# Altium schematic symbol library capacitor_murata_1210$.SchLib: 200 symbols (part 4 of 4)
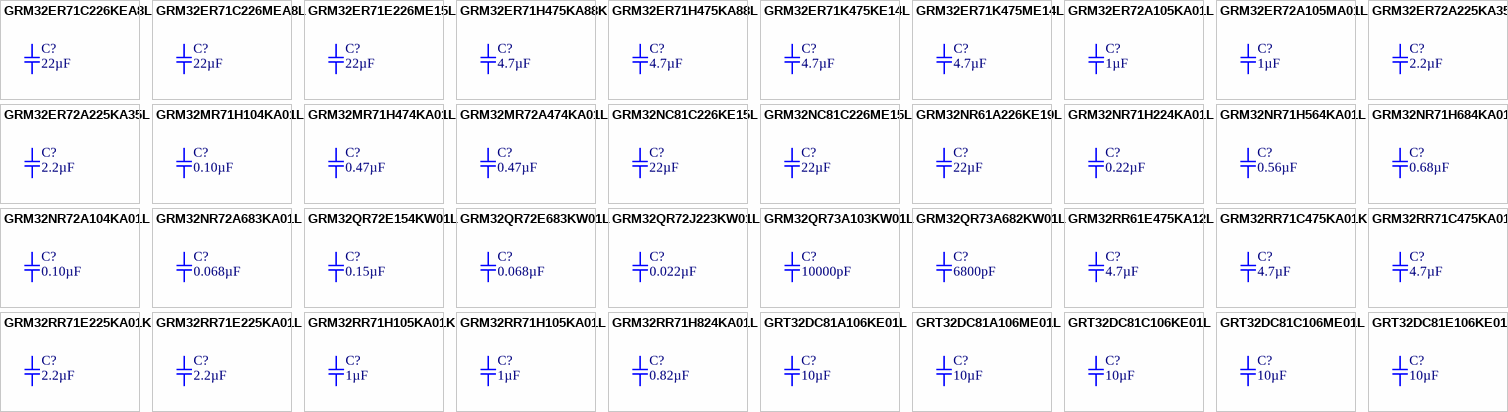
[diagram p7: symbols GRM32ER71C226KEA8L to GRT32DC81E106KE01L]

## GRT32DC81A106KE01L
designator C?, comment 10µF
CAP CER 10UF 10V X6S 1210; Part Number: GRT32DC81A106KE01L; Manufacturer: Murata Electronics North America; Factory Stock: 0; Unit Price (USD): 0.87; Minimum Quantity: 1; Tolerance: ±10%; Datasheets: http://search.murata.co.jp/Ceramy/image/img/A01X/G101/ENG/GRT32DC81A106KE01-01.pdf; Image: //media.digikey.com/Renders/Murata%20Renders/GRT%20Series%201210(3225%20Metric).jpg; Digi-Key Part Number: 490-12463-1-ND; Quantity Available: 1000; @ qty: 0; Packaging: Cut Tape (CT); Series: GRT; Part Status: Active; Value: 10µF; Voltage: 10V; Temperature Coefficient: X6S; Operating Temperature: -55°C ~ 105°C; Features: -; Ratings: AEC-Q200; Applications: Automotive; Failure Rate: Surface Mount, MLCC; Mounting Type: 1210 (3225 Metric); Package / Case: 0.126" L x 0.098" W (3.20mm x 2.50mm); Size / Dimension: -; Height - Seated (Max): 0.087" (2.20mm); Thickness (Max): -; Lead Spacing: -
footprint SMD-1210C
pins: 1, 2

## GRT32DC81A106ME01L
designator C?, comment 10µF
CAP CER 10UF 10V X6S 1210; Part Number: GRT32DC81A106ME01L; Manufacturer: Murata Electronics North America; Factory Stock: 0; Unit Price (USD): 0.87; Minimum Quantity: 1; Tolerance: ±20%; Datasheets: http://search.murata.co.jp/Ceramy/image/img/A01X/G101/ENG/GRT32DC81A106ME01-01.pdf; Image: //media.digikey.com/Renders/Murata%20Renders/GRT%20Series%201210(3225%20Metric).jpg; Digi-Key Part Number: 490-12464-1-ND; Quantity Available: 1000; @ qty: 0; Packaging: Cut Tape (CT); Series: GRT; Part Status: Active; Value: 10µF; Voltage: 10V; Temperature Coefficient: X6S; Operating Temperature: -55°C ~ 105°C; Features: -; Ratings: AEC-Q200; Applications: Automotive; Failure Rate: Surface Mount, MLCC; Mounting Type: 1210 (3225 Metric); Package / Case: 0.126" L x 0.098" W (3.20mm x 2.50mm); Size / Dimension: -; Height - Seated (Max): 0.087" (2.20mm); Thickness (Max): -; Lead Spacing: -
footprint SMD-1210C
pins: 1, 2

## GRT32DC81C106KE01L
designator C?, comment 10µF
CAP CER 10UF 16V X6S 1210; Part Number: GRT32DC81C106KE01L; Manufacturer: Murata Electronics North America; Factory Stock: 0; Unit Price (USD): 0.87; Minimum Quantity: 1; Tolerance: ±10%; Datasheets: http://search.murata.co.jp/Ceramy/image/img/A01X/G101/ENG/GRT32DC81C106KE01-01.pdf; Image: //media.digikey.com/Renders/Murata%20Renders/GRT%20Series%201210(3225%20Metric).jpg; Digi-Key Part Number: 490-12465-1-ND; Quantity Available: 1000; @ qty: 0; Packaging: Cut Tape (CT); Series: GRT; Part Status: Active; Value: 10µF; Voltage: 16V; Temperature Coefficient: X6S; Operating Temperature: -55°C ~ 105°C; Features: -; Ratings: AEC-Q200; Applications: Automotive; Failure Rate: Surface Mount, MLCC; Mounting Type: 1210 (3225 Metric); Package / Case: 0.126" L x 0.098" W (3.20mm x 2.50mm); Size / Dimension: -; Height - Seated (Max): 0.087" (2.20mm); Thickness (Max): -; Lead Spacing: -
footprint SMD-1210C
pins: 1, 2

## GRT32DC81C106ME01L
designator C?, comment 10µF
CAP CER 10UF 16V X6S 1210; Part Number: GRT32DC81C106ME01L; Manufacturer: Murata Electronics North America; Factory Stock: 0; Unit Price (USD): 0.87; Minimum Quantity: 1; Tolerance: ±20%; Datasheets: http://search.murata.co.jp/Ceramy/image/img/A01X/G101/ENG/GRT32DC81C106ME01-01.pdf; Image: //media.digikey.com/Renders/Murata%20Renders/GRT%20Series%201210(3225%20Metric).jpg; Digi-Key Part Number: 490-12466-1-ND; Quantity Available: 1000; @ qty: 0; Packaging: Cut Tape (CT); Series: GRT; Part Status: Active; Value: 10µF; Voltage: 16V; Temperature Coefficient: X6S; Operating Temperature: -55°C ~ 105°C; Features: -; Ratings: AEC-Q200; Applications: Automotive; Failure Rate: Surface Mount, MLCC; Mounting Type: 1210 (3225 Metric); Package / Case: 0.126" L x 0.098" W (3.20mm x 2.50mm); Size / Dimension: -; Height - Seated (Max): 0.087" (2.20mm); Thickness (Max): -; Lead Spacing: -
footprint SMD-1210C
pins: 1, 2

## GRT32DC81E106KE01L
designator C?, comment 10µF
CAP CER 10UF 25V X6S 1210; Part Number: GRT32DC81E106KE01L; Manufacturer: Murata Electronics North America; Factory Stock: 0; Unit Price (USD): 0.91; Minimum Quantity: 1; Tolerance: ±10%; Datasheets: http://search.murata.co.jp/Ceramy/image/img/A01X/G101/ENG/GRT32DC81E106KE01-01.pdf; Image: //media.digikey.com/Renders/Murata%20Renders/GRT%20Series%201210(3225%20Metric).jpg; Digi-Key Part Number: 490-12467-1-ND; Quantity Available: 1000; @ qty: 0; Packaging: Cut Tape (CT); Series: GRT; Part Status: Active; Value: 10µF; Voltage: 25V; Temperature Coefficient: X6S; Operating Temperature: -55°C ~ 105°C; Features: -; Ratings: AEC-Q200; Applications: Automotive; Failure Rate: Surface Mount, MLCC; Mounting Type: 1210 (3225 Metric); Package / Case: 0.126" L x 0.098" W (3.20mm x 2.50mm); Size / Dimension: -; Height - Seated (Max): 0.087" (2.20mm); Thickness (Max): -; Lead Spacing: -
footprint SMD-1210C
pins: 1, 2

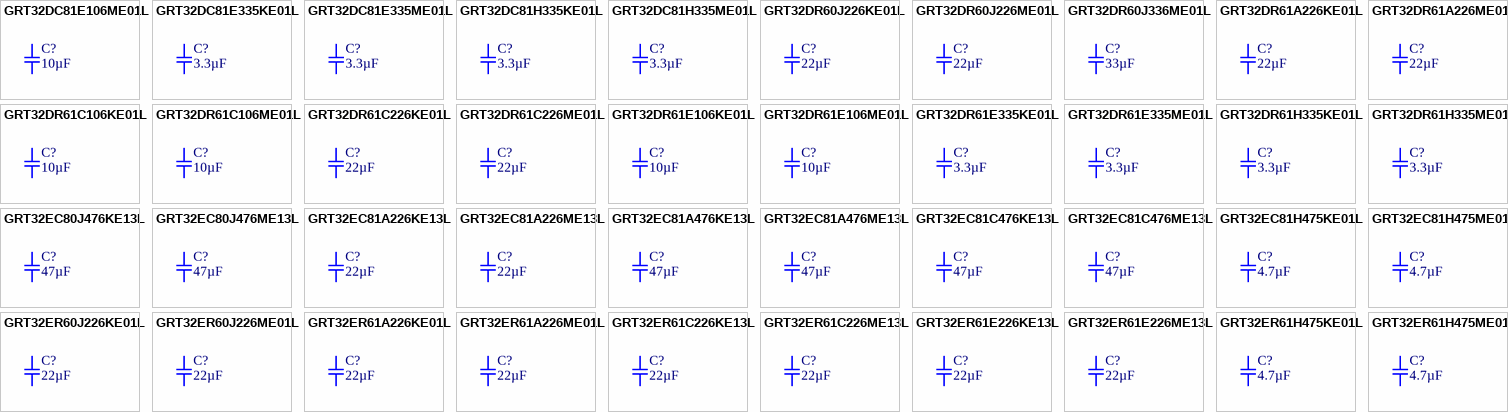
[diagram p4: symbols GRT32DC81E106ME01L to GRT32ER61H475ME01L]

## GRT32DC81E106ME01L
designator C?, comment 10µF
CAP CER 10UF 25V X6S 1210; Part Number: GRT32DC81E106ME01L; Manufacturer: Murata Electronics North America; Factory Stock: 0; Unit Price (USD): 0.91; Minimum Quantity: 1; Tolerance: ±20%; Datasheets: http://search.murata.co.jp/Ceramy/image/img/A01X/G101/ENG/GRT32DC81E106ME01-01.pdf; Image: //media.digikey.com/Renders/Murata%20Renders/GRT%20Series%201210(3225%20Metric).jpg; Digi-Key Part Number: 490-12468-1-ND; Quantity Available: 1000; @ qty: 0; Packaging: Cut Tape (CT); Series: GRT; Part Status: Active; Value: 10µF; Voltage: 25V; Temperature Coefficient: X6S; Operating Temperature: -55°C ~ 105°C; Features: -; Ratings: AEC-Q200; Applications: Automotive; Failure Rate: Surface Mount, MLCC; Mounting Type: 1210 (3225 Metric); Package / Case: 0.126" L x 0.098" W (3.20mm x 2.50mm); Size / Dimension: -; Height - Seated (Max): 0.087" (2.20mm); Thickness (Max): -; Lead Spacing: -
footprint SMD-1210C
pins: 1, 2

## GRT32DC81E335KE01L
designator C?, comment 3.3µF
CAP CER 3.3UF 25V X6S 1210; Part Number: GRT32DC81E335KE01L; Manufacturer: Murata Electronics North America; Factory Stock: 0; Unit Price (USD): 0.66; Minimum Quantity: 1; Tolerance: ±10%; Datasheets: http://search.murata.co.jp/Ceramy/image/img/A01X/G101/ENG/GRT32DC81E335KE01-01.pdf; Image: //media.digikey.com/Renders/Murata%20Renders/GRT%20Series%201210(3225%20Metric).jpg; Digi-Key Part Number: 490-12469-1-ND; Quantity Available: 988; @ qty: 0; Packaging: Cut Tape (CT); Series: GRT; Part Status: Active; Value: 3.3µF; Voltage: 25V; Temperature Coefficient: X6S; Operating Temperature: -55°C ~ 105°C; Features: -; Ratings: AEC-Q200; Applications: Automotive; Failure Rate: Surface Mount, MLCC; Mounting Type: 1210 (3225 Metric); Package / Case: 0.126" L x 0.098" W (3.20mm x 2.50mm); Size / Dimension: -; Height - Seated (Max): 0.087" (2.20mm); Thickness (Max): -; Lead Spacing: -
footprint SMD-1210C
pins: 1, 2

## GRT32DC81E335ME01L
designator C?, comment 3.3µF
CAP CER 3.3UF 25V X6S 1210; Part Number: GRT32DC81E335ME01L; Manufacturer: Murata Electronics North America; Factory Stock: 0; Unit Price (USD): 0.66; Minimum Quantity: 1; Tolerance: ±20%; Datasheets: http://search.murata.co.jp/Ceramy/image/img/A01X/G101/ENG/GRT32DC81E335ME01-01.pdf; Image: //media.digikey.com/Renders/Murata%20Renders/GRT%20Series%201210(3225%20Metric).jpg; Digi-Key Part Number: 490-12470-1-ND; Quantity Available: 1000; @ qty: 0; Packaging: Cut Tape (CT); Series: GRT; Part Status: Active; Value: 3.3µF; Voltage: 25V; Temperature Coefficient: X6S; Operating Temperature: -55°C ~ 105°C; Features: -; Ratings: AEC-Q200; Applications: Automotive; Failure Rate: Surface Mount, MLCC; Mounting Type: 1210 (3225 Metric); Package / Case: 0.126" L x 0.098" W (3.20mm x 2.50mm); Size / Dimension: -; Height - Seated (Max): 0.087" (2.20mm); Thickness (Max): -; Lead Spacing: -
footprint SMD-1210C
pins: 1, 2

## GRT32DC81H335KE01L
designator C?, comment 3.3µF
CAP CER 3.3UF 50V X6S 1210; Part Number: GRT32DC81H335KE01L; Manufacturer: Murata Electronics North America; Factory Stock: 0; Unit Price (USD): 1.05; Minimum Quantity: 1; Tolerance: ±10%; Datasheets: http://search.murata.co.jp/Ceramy/image/img/A01X/G101/ENG/GRT32DC81H335KE01-01.pdf; Image: //media.digikey.com/Renders/Murata%20Renders/GRT%20Series%201210(3225%20Metric).jpg; Digi-Key Part Number: 490-12471-1-ND; Quantity Available: 1000; @ qty: 0; Packaging: Cut Tape (CT); Series: GRT; Part Status: Active; Value: 3.3µF; Voltage: 50V; Temperature Coefficient: X6S; Operating Temperature: -55°C ~ 105°C; Features: -; Ratings: AEC-Q200; Applications: Automotive; Failure Rate: Surface Mount, MLCC; Mounting Type: 1210 (3225 Metric); Package / Case: 0.126" L x 0.098" W (3.20mm x 2.50mm); Size / Dimension: -; Height - Seated (Max): 0.087" (2.20mm); Thickness (Max): -; Lead Spacing: -
footprint SMD-1210C
pins: 1, 2

## GRT32DC81H335ME01L
designator C?, comment 3.3µF
CAP CER 3.3UF 50V X6S 1210; Part Number: GRT32DC81H335ME01L; Manufacturer: Murata Electronics North America; Factory Stock: 0; Unit Price (USD): 1.05; Minimum Quantity: 1; Tolerance: ±20%; Datasheets: http://search.murata.co.jp/Ceramy/image/img/A01X/G101/ENG/GRT32DC81H335ME01-01.pdf; Image: //media.digikey.com/Renders/Murata%20Renders/GRT%20Series%201210(3225%20Metric).jpg; Digi-Key Part Number: 490-12472-1-ND; Quantity Available: 1000; @ qty: 0; Packaging: Cut Tape (CT); Series: GRT; Part Status: Active; Value: 3.3µF; Voltage: 50V; Temperature Coefficient: X6S; Operating Temperature: -55°C ~ 105°C; Features: -; Ratings: AEC-Q200; Applications: Automotive; Failure Rate: Surface Mount, MLCC; Mounting Type: 1210 (3225 Metric); Package / Case: 0.126" L x 0.098" W (3.20mm x 2.50mm); Size / Dimension: -; Height - Seated (Max): 0.087" (2.20mm); Thickness (Max): -; Lead Spacing: -
footprint SMD-1210C
pins: 1, 2

## GRT32DR60J226KE01L
designator C?, comment 22µF
CAP CER 22UF 6.3V X5R 1210; Part Number: GRT32DR60J226KE01L; Manufacturer: Murata Electronics North America; Factory Stock: 0; Unit Price (USD): 1.03; Minimum Quantity: 1; Tolerance: ±10%; Datasheets: http://search.murata.co.jp/Ceramy/image/img/A01X/G101/ENG/GRT32DR60J226KE01-01.pdf; Image: //media.digikey.com/Renders/Murata%20Renders/GRT%20Series%201210(3225%20Metric).jpg; Digi-Key Part Number: 490-12473-1-ND; Quantity Available: 1000; @ qty: 0; Packaging: Cut Tape (CT); Series: GRT; Part Status: Active; Value: 22µF; Voltage: 6.3V; Temperature Coefficient: X5R; Operating Temperature: -55°C ~ 85°C; Features: -; Ratings: AEC-Q200; Applications: Automotive; Failure Rate: Surface Mount, MLCC; Mounting Type: 1210 (3225 Metric); Package / Case: 0.126" L x 0.098" W (3.20mm x 2.50mm); Size / Dimension: -; Height - Seated (Max): 0.087" (2.20mm); Thickness (Max): -; Lead Spacing: -
footprint SMD-1210C
pins: 1, 2

## GRT32DR60J226ME01L
designator C?, comment 22µF
CAP CER 22UF 6.3V X5R 1210; Part Number: GRT32DR60J226ME01L; Manufacturer: Murata Electronics North America; Factory Stock: 0; Unit Price (USD): 1.03; Minimum Quantity: 1; Tolerance: ±20%; Datasheets: http://search.murata.co.jp/Ceramy/image/img/A01X/G101/ENG/GRT32DR60J226ME01-01.pdf; Image: //media.digikey.com/Renders/Murata%20Renders/GRT%20Series%201210(3225%20Metric).jpg; Digi-Key Part Number: 490-12474-1-ND; Quantity Available: 1000; @ qty: 0; Packaging: Cut Tape (CT); Series: GRT; Part Status: Active; Value: 22µF; Voltage: 6.3V; Temperature Coefficient: X5R; Operating Temperature: -55°C ~ 85°C; Features: -; Ratings: AEC-Q200; Applications: Automotive; Failure Rate: Surface Mount, MLCC; Mounting Type: 1210 (3225 Metric); Package / Case: 0.126" L x 0.098" W (3.20mm x 2.50mm); Size / Dimension: -; Height - Seated (Max): 0.087" (2.20mm); Thickness (Max): -; Lead Spacing: -
footprint SMD-1210C
pins: 1, 2

## GRT32DR60J336ME01L
designator C?, comment 33µF
CAP CER 33UF 6.3V X5R 1210; Part Number: GRT32DR60J336ME01L; Manufacturer: Murata Electronics North America; Factory Stock: 0; Unit Price (USD): 1.52; Minimum Quantity: 1; Tolerance: ±20%; Datasheets: http://search.murata.co.jp/Ceramy/image/img/A01X/G101/ENG/GRT32DR60J336ME01-01.pdf; Image: //media.digikey.com/Renders/Murata%20Renders/GRT%20Series%201210(3225%20Metric).jpg; Digi-Key Part Number: 490-12475-1-ND; Quantity Available: 955; @ qty: 0; Packaging: Cut Tape (CT); Series: GRT; Part Status: Active; Value: 33µF; Voltage: 6.3V; Temperature Coefficient: X5R; Operating Temperature: -55°C ~ 85°C; Features: -; Ratings: AEC-Q200; Applications: Automotive; Failure Rate: Surface Mount, MLCC; Mounting Type: 1210 (3225 Metric); Package / Case: 0.126" L x 0.098" W (3.20mm x 2.50mm); Size / Dimension: -; Height - Seated (Max): 0.087" (2.20mm); Thickness (Max): -; Lead Spacing: -
footprint SMD-1210C
pins: 1, 2

## GRT32DR61A226KE01L
designator C?, comment 22µF
CAP CER 22UF 10V X5R 1210; Part Number: GRT32DR61A226KE01L; Manufacturer: Murata Electronics North America; Factory Stock: 0; Unit Price (USD): 1.15; Minimum Quantity: 1; Tolerance: ±10%; Datasheets: http://search.murata.co.jp/Ceramy/image/img/A01X/G101/ENG/GRT32DR61A226KE01-01.pdf; Image: //media.digikey.com/Renders/Murata%20Renders/GRT%20Series%201210(3225%20Metric).jpg; Digi-Key Part Number: 490-12476-1-ND; Quantity Available: 500; @ qty: 0; Packaging: Cut Tape (CT); Series: GRT; Part Status: Active; Value: 22µF; Voltage: 10V; Temperature Coefficient: X5R; Operating Temperature: -55°C ~ 85°C; Features: -; Ratings: AEC-Q200; Applications: Automotive; Failure Rate: Surface Mount, MLCC; Mounting Type: 1210 (3225 Metric); Package / Case: 0.126" L x 0.098" W (3.20mm x 2.50mm); Size / Dimension: -; Height - Seated (Max): 0.087" (2.20mm); Thickness (Max): -; Lead Spacing: -
footprint SMD-1210C
pins: 1, 2

## GRT32DR61A226ME01L
designator C?, comment 22µF
CAP CER 22UF 10V X5R 1210; Part Number: GRT32DR61A226ME01L; Manufacturer: Murata Electronics North America; Factory Stock: 0; Unit Price (USD): 1.15; Minimum Quantity: 1; Tolerance: ±20%; Datasheets: http://search.murata.co.jp/Ceramy/image/img/A01X/G101/ENG/GRT32DR61A226ME01-01.pdf; Image: //media.digikey.com/Renders/Murata%20Renders/GRT%20Series%201210(3225%20Metric).jpg; Digi-Key Part Number: 490-12477-1-ND; Quantity Available: 1000; @ qty: 0; Packaging: Cut Tape (CT); Series: GRT; Part Status: Active; Value: 22µF; Voltage: 10V; Temperature Coefficient: X5R; Operating Temperature: -55°C ~ 85°C; Features: -; Ratings: AEC-Q200; Applications: Automotive; Failure Rate: Surface Mount, MLCC; Mounting Type: 1210 (3225 Metric); Package / Case: 0.126" L x 0.098" W (3.20mm x 2.50mm); Size / Dimension: -; Height - Seated (Max): 0.087" (2.20mm); Thickness (Max): -; Lead Spacing: -
footprint SMD-1210C
pins: 1, 2

## GRT32DR61C106KE01L
designator C?, comment 10µF
CAP CER 10UF 16V X5R 1210; Part Number: GRT32DR61C106KE01L; Manufacturer: Murata Electronics North America; Factory Stock: 0; Unit Price (USD): 1.09; Minimum Quantity: 1; Tolerance: ±10%; Datasheets: http://search.murata.co.jp/Ceramy/image/img/A01X/G101/ENG/GRT32DR61C106KE01-01.pdf; Image: //media.digikey.com/Renders/Murata%20Renders/GRT%20Series%201210(3225%20Metric).jpg; Digi-Key Part Number: 490-12478-1-ND; Quantity Available: 1000; @ qty: 0; Packaging: Cut Tape (CT); Series: GRT; Part Status: Active; Value: 10µF; Voltage: 16V; Temperature Coefficient: X5R; Operating Temperature: -55°C ~ 85°C; Features: -; Ratings: AEC-Q200; Applications: Automotive; Failure Rate: Surface Mount, MLCC; Mounting Type: 1210 (3225 Metric); Package / Case: 0.126" L x 0.098" W (3.20mm x 2.50mm); Size / Dimension: -; Height - Seated (Max): 0.087" (2.20mm); Thickness (Max): -; Lead Spacing: -
footprint SMD-1210C
pins: 1, 2

## GRT32DR61C106ME01L
designator C?, comment 10µF
CAP CER 10UF 16V X5R 1210; Part Number: GRT32DR61C106ME01L; Manufacturer: Murata Electronics North America; Factory Stock: 0; Unit Price (USD): 0.84; Minimum Quantity: 1; Tolerance: ±20%; Datasheets: http://search.murata.co.jp/Ceramy/image/img/A01X/G101/ENG/GRT32DR61C106ME01-01.pdf; Image: //media.digikey.com/Renders/Murata%20Renders/GRT%20Series%201210(3225%20Metric).jpg; Digi-Key Part Number: 490-12479-1-ND; Quantity Available: 1000; @ qty: 0; Packaging: Cut Tape (CT); Series: GRT; Part Status: Active; Value: 10µF; Voltage: 16V; Temperature Coefficient: X5R; Operating Temperature: -55°C ~ 85°C; Features: -; Ratings: AEC-Q200; Applications: Automotive; Failure Rate: Surface Mount, MLCC; Mounting Type: 1210 (3225 Metric); Package / Case: 0.126" L x 0.098" W (3.20mm x 2.50mm); Size / Dimension: -; Height - Seated (Max): 0.087" (2.20mm); Thickness (Max): -; Lead Spacing: -
footprint SMD-1210C
pins: 1, 2

## GRT32DR61C226KE01L
designator C?, comment 22µF
CAP CER 22UF 16V X5R 1210; Part Number: GRT32DR61C226KE01L; Manufacturer: Murata Electronics North America; Factory Stock: 0; Unit Price (USD): 1.15; Minimum Quantity: 1; Tolerance: ±10%; Datasheets: http://search.murata.co.jp/Ceramy/image/img/A01X/G101/ENG/GRT32DR61C226KE01-01.pdf; Image: //media.digikey.com/Renders/Murata%20Renders/GRT%20Series%201210(3225%20Metric).jpg; Digi-Key Part Number: 490-12480-1-ND; Quantity Available: 1000; @ qty: 0; Packaging: Cut Tape (CT); Series: GRT; Part Status: Active; Value: 22µF; Voltage: 16V; Temperature Coefficient: X5R; Operating Temperature: -55°C ~ 85°C; Features: -; Ratings: AEC-Q200; Applications: Automotive; Failure Rate: Surface Mount, MLCC; Mounting Type: 1210 (3225 Metric); Package / Case: 0.126" L x 0.098" W (3.20mm x 2.50mm); Size / Dimension: -; Height - Seated (Max): 0.087" (2.20mm); Thickness (Max): -; Lead Spacing: -
footprint SMD-1210C
pins: 1, 2

## GRT32DR61C226ME01L
designator C?, comment 22µF
CAP CER 22UF 16V X5R 1210; Part Number: GRT32DR61C226ME01L; Manufacturer: Murata Electronics North America; Factory Stock: 0; Unit Price (USD): 1.15; Minimum Quantity: 1; Tolerance: ±20%; Datasheets: http://search.murata.co.jp/Ceramy/image/img/A01X/G101/ENG/GRT32DR61C226ME01-01.pdf; Image: //media.digikey.com/Renders/Murata%20Renders/GRT%20Series%201210(3225%20Metric).jpg; Digi-Key Part Number: 490-12481-1-ND; Quantity Available: 1000; @ qty: 0; Packaging: Cut Tape (CT); Series: GRT; Part Status: Active; Value: 22µF; Voltage: 16V; Temperature Coefficient: X5R; Operating Temperature: -55°C ~ 85°C; Features: -; Ratings: AEC-Q200; Applications: Automotive; Failure Rate: Surface Mount, MLCC; Mounting Type: 1210 (3225 Metric); Package / Case: 0.126" L x 0.098" W (3.20mm x 2.50mm); Size / Dimension: -; Height - Seated (Max): 0.087" (2.20mm); Thickness (Max): -; Lead Spacing: -
footprint SMD-1210C
pins: 1, 2

## GRT32DR61E106KE01L
designator C?, comment 10µF
CAP CER 10UF 25V X5R 1210; Part Number: GRT32DR61E106KE01L; Manufacturer: Murata Electronics North America; Factory Stock: 0; Unit Price (USD): 0.91; Minimum Quantity: 1; Tolerance: ±10%; Datasheets: http://search.murata.co.jp/Ceramy/image/img/A01X/G101/ENG/GRT32DR61E106KE01-01.pdf; Image: //media.digikey.com/Renders/Murata%20Renders/GRT%20Series%201210(3225%20Metric).jpg; Digi-Key Part Number: 490-12482-1-ND; Quantity Available: 1000; @ qty: 0; Packaging: Cut Tape (CT); Series: GRT; Part Status: Active; Value: 10µF; Voltage: 25V; Temperature Coefficient: X5R; Operating Temperature: -55°C ~ 85°C; Features: -; Ratings: AEC-Q200; Applications: Automotive; Failure Rate: Surface Mount, MLCC; Mounting Type: 1210 (3225 Metric); Package / Case: 0.126" L x 0.098" W (3.20mm x 2.50mm); Size / Dimension: -; Height - Seated (Max): 0.087" (2.20mm); Thickness (Max): -; Lead Spacing: -
footprint SMD-1210C
pins: 1, 2

## GRT32DR61E106ME01L
designator C?, comment 10µF
CAP CER 10UF 25V X5R 1210; Part Number: GRT32DR61E106ME01L; Manufacturer: Murata Electronics North America; Factory Stock: 0; Unit Price (USD): 0.91; Minimum Quantity: 1; Tolerance: ±20%; Datasheets: http://search.murata.co.jp/Ceramy/image/img/A01X/G101/ENG/GRT32DR61E106ME01-01.pdf; Image: //media.digikey.com/Renders/Murata%20Renders/GRT%20Series%201210(3225%20Metric).jpg; Digi-Key Part Number: 490-12483-1-ND; Quantity Available: 950; @ qty: 0; Packaging: Cut Tape (CT); Series: GRT; Part Status: Active; Value: 10µF; Voltage: 25V; Temperature Coefficient: X5R; Operating Temperature: -55°C ~ 85°C; Features: -; Ratings: AEC-Q200; Applications: Automotive; Failure Rate: Surface Mount, MLCC; Mounting Type: 1210 (3225 Metric); Package / Case: 0.126" L x 0.098" W (3.20mm x 2.50mm); Size / Dimension: -; Height - Seated (Max): 0.087" (2.20mm); Thickness (Max): -; Lead Spacing: -
footprint SMD-1210C
pins: 1, 2

## GRT32DR61E335KE01L
designator C?, comment 3.3µF
CAP CER 3.3UF 25V X5R 1210; Part Number: GRT32DR61E335KE01L; Manufacturer: Murata Electronics North America; Factory Stock: 0; Unit Price (USD): 0.66; Minimum Quantity: 1; Tolerance: ±10%; Datasheets: http://search.murata.co.jp/Ceramy/image/img/A01X/G101/ENG/GRT32DR61E335KE01-01.pdf; Image: //media.digikey.com/Renders/Murata%20Renders/GRT%20Series%201210(3225%20Metric).jpg; Digi-Key Part Number: 490-12484-1-ND; Quantity Available: 1000; @ qty: 0; Packaging: Cut Tape (CT); Series: GRT; Part Status: Active; Value: 3.3µF; Voltage: 25V; Temperature Coefficient: X5R; Operating Temperature: -55°C ~ 85°C; Features: -; Ratings: AEC-Q200; Applications: Automotive; Failure Rate: Surface Mount, MLCC; Mounting Type: 1210 (3225 Metric); Package / Case: 0.126" L x 0.098" W (3.20mm x 2.50mm); Size / Dimension: -; Height - Seated (Max): 0.087" (2.20mm); Thickness (Max): -; Lead Spacing: -
footprint SMD-1210C
pins: 1, 2

## GRT32DR61E335ME01L
designator C?, comment 3.3µF
CAP CER 3.3UF 25V X5R 1210; Part Number: GRT32DR61E335ME01L; Manufacturer: Murata Electronics North America; Factory Stock: 0; Unit Price (USD): 0.66; Minimum Quantity: 1; Tolerance: ±20%; Datasheets: http://search.murata.co.jp/Ceramy/image/img/A01X/G101/ENG/GRT32DR61E335ME01-01.pdf; Image: //media.digikey.com/Renders/Murata%20Renders/GRT%20Series%201210(3225%20Metric).jpg; Digi-Key Part Number: 490-12485-1-ND; Quantity Available: 1000; @ qty: 0; Packaging: Cut Tape (CT); Series: GRT; Part Status: Active; Value: 3.3µF; Voltage: 25V; Temperature Coefficient: X5R; Operating Temperature: -55°C ~ 85°C; Features: -; Ratings: AEC-Q200; Applications: Automotive; Failure Rate: Surface Mount, MLCC; Mounting Type: 1210 (3225 Metric); Package / Case: 0.126" L x 0.098" W (3.20mm x 2.50mm); Size / Dimension: -; Height - Seated (Max): 0.087" (2.20mm); Thickness (Max): -; Lead Spacing: -
footprint SMD-1210C
pins: 1, 2

## GRT32DR61H335KE01L
designator C?, comment 3.3µF
CAP CER 3.3UF 50V X5R 1210; Part Number: GRT32DR61H335KE01L; Manufacturer: Murata Electronics North America; Factory Stock: 0; Unit Price (USD): 1.01; Minimum Quantity: 1; Tolerance: ±10%; Datasheets: http://search.murata.co.jp/Ceramy/image/img/A01X/G101/ENG/GRT32DR61H335KE01-01.pdf; Image: //media.digikey.com/Renders/Murata%20Renders/GRT%20Series%201210(3225%20Metric).jpg; Digi-Key Part Number: 490-12486-1-ND; Quantity Available: 1000; @ qty: 0; Packaging: Cut Tape (CT); Series: GRT; Part Status: Active; Value: 3.3µF; Voltage: 50V; Temperature Coefficient: X5R; Operating Temperature: -55°C ~ 85°C; Features: -; Ratings: AEC-Q200; Applications: Automotive; Failure Rate: Surface Mount, MLCC; Mounting Type: 1210 (3225 Metric); Package / Case: 0.126" L x 0.098" W (3.20mm x 2.50mm); Size / Dimension: -; Height - Seated (Max): 0.087" (2.20mm); Thickness (Max): -; Lead Spacing: -
footprint SMD-1210C
pins: 1, 2

## GRT32DR61H335ME01L
designator C?, comment 3.3µF
CAP CER 3.3UF 50V X5R 1210; Part Number: GRT32DR61H335ME01L; Manufacturer: Murata Electronics North America; Factory Stock: 0; Unit Price (USD): 1.01; Minimum Quantity: 1; Tolerance: ±20%; Datasheets: http://search.murata.co.jp/Ceramy/image/img/A01X/G101/ENG/GRT32DR61H335ME01-01.pdf; Image: //media.digikey.com/Renders/Murata%20Renders/GRT%20Series%201210(3225%20Metric).jpg; Digi-Key Part Number: 490-12487-1-ND; Quantity Available: 1000; @ qty: 0; Packaging: Cut Tape (CT); Series: GRT; Part Status: Active; Value: 3.3µF; Voltage: 50V; Temperature Coefficient: X5R; Operating Temperature: -55°C ~ 85°C; Features: -; Ratings: AEC-Q200; Applications: Automotive; Failure Rate: Surface Mount, MLCC; Mounting Type: 1210 (3225 Metric); Package / Case: 0.126" L x 0.098" W (3.20mm x 2.50mm); Size / Dimension: -; Height - Seated (Max): 0.087" (2.20mm); Thickness (Max): -; Lead Spacing: -
footprint SMD-1210C
pins: 1, 2

## GRT32EC80J476KE13L
designator C?, comment 47µF
CAP CER 47UF 6.3V X6S 1210; Part Number: GRT32EC80J476KE13L; Manufacturer: Murata Electronics North America; Factory Stock: 0; Unit Price (USD): 1.42; Minimum Quantity: 1; Tolerance: ±10%; Datasheets: http://search.murata.co.jp/Ceramy/image/img/A01X/G101/ENG/GRT32EC80J476KE13-01.pdf; Image: //media.digikey.com/Renders/Murata%20Renders/GRT%20Series%201210(3225%20Metric).jpg; Digi-Key Part Number: 490-12488-1-ND; Quantity Available: 975; @ qty: 0; Packaging: Cut Tape (CT); Series: GRT; Part Status: Active; Value: 47µF; Voltage: 6.3V; Temperature Coefficient: X6S; Operating Temperature: -55°C ~ 105°C; Features: -; Ratings: AEC-Q200; Applications: Automotive; Failure Rate: Surface Mount, MLCC; Mounting Type: 1210 (3225 Metric); Package / Case: 0.126" L x 0.098" W (3.20mm x 2.50mm); Size / Dimension: -; Height - Seated (Max): 0.106" (2.70mm); Thickness (Max): -; Lead Spacing: -
footprint SMD-1210C
pins: 1, 2

## GRT32EC80J476ME13L
designator C?, comment 47µF
CAP CER 47UF 6.3V X6S 1210; Part Number: GRT32EC80J476ME13L; Manufacturer: Murata Electronics North America; Factory Stock: 0; Unit Price (USD): 1.42; Minimum Quantity: 1; Tolerance: ±20%; Datasheets: http://search.murata.co.jp/Ceramy/image/img/A01X/G101/ENG/GRT32EC80J476ME13-01.pdf; Image: //media.digikey.com/Renders/Murata%20Renders/GRT%20Series%201210(3225%20Metric).jpg; Digi-Key Part Number: 490-12489-1-ND; Quantity Available: 948; @ qty: 0; Packaging: Cut Tape (CT); Series: GRT; Part Status: Active; Value: 47µF; Voltage: 6.3V; Temperature Coefficient: X6S; Operating Temperature: -55°C ~ 105°C; Features: -; Ratings: AEC-Q200; Applications: Automotive; Failure Rate: Surface Mount, MLCC; Mounting Type: 1210 (3225 Metric); Package / Case: 0.126" L x 0.098" W (3.20mm x 2.50mm); Size / Dimension: -; Height - Seated (Max): 0.106" (2.70mm); Thickness (Max): -; Lead Spacing: -
footprint SMD-1210C
pins: 1, 2

## GRT32EC81A226KE13L
designator C?, comment 22µF
CAP CER 22UF 10V X6S 1210; Part Number: GRT32EC81A226KE13L; Manufacturer: Murata Electronics North America; Factory Stock: 0; Unit Price (USD): 1.29; Minimum Quantity: 1; Tolerance: ±10%; Datasheets: http://search.murata.co.jp/Ceramy/image/img/A01X/G101/ENG/GRT32EC81A226KE13-01.pdf; Image: //media.digikey.com/Renders/Murata%20Renders/GRT%20Series%201210(3225%20Metric).jpg; Digi-Key Part Number: 490-12490-1-ND; Quantity Available: 1000; @ qty: 0; Packaging: Cut Tape (CT); Series: GRT; Part Status: Active; Value: 22µF; Voltage: 10V; Temperature Coefficient: X6S; Operating Temperature: -55°C ~ 105°C; Features: -; Ratings: AEC-Q200; Applications: Automotive; Failure Rate: Surface Mount, MLCC; Mounting Type: 1210 (3225 Metric); Package / Case: 0.126" L x 0.098" W (3.20mm x 2.50mm); Size / Dimension: -; Height - Seated (Max): 0.106" (2.70mm); Thickness (Max): -; Lead Spacing: -
footprint SMD-1210C
pins: 1, 2

## GRT32EC81A226ME13L
designator C?, comment 22µF
CAP CER 22UF 10V X6S 1210; Part Number: GRT32EC81A226ME13L; Manufacturer: Murata Electronics North America; Factory Stock: 0; Unit Price (USD): 1.29; Minimum Quantity: 1; Tolerance: ±20%; Datasheets: http://search.murata.co.jp/Ceramy/image/img/A01X/G101/ENG/GRT32EC81A226ME13-01.pdf; Image: //media.digikey.com/Renders/Murata%20Renders/GRT%20Series%201210(3225%20Metric).jpg; Digi-Key Part Number: 490-12491-1-ND; Quantity Available: 990; @ qty: 0; Packaging: Cut Tape (CT); Series: GRT; Part Status: Active; Value: 22µF; Voltage: 10V; Temperature Coefficient: X6S; Operating Temperature: -55°C ~ 105°C; Features: -; Ratings: AEC-Q200; Applications: Automotive; Failure Rate: Surface Mount, MLCC; Mounting Type: 1210 (3225 Metric); Package / Case: 0.126" L x 0.098" W (3.20mm x 2.50mm); Size / Dimension: -; Height - Seated (Max): 0.106" (2.70mm); Thickness (Max): -; Lead Spacing: -
footprint SMD-1210C
pins: 1, 2

## GRT32EC81A476KE13L
designator C?, comment 47µF
CAP CER 47UF 10V X6S 1210; Part Number: GRT32EC81A476KE13L; Manufacturer: Murata Electronics North America; Factory Stock: 0; Unit Price (USD): 1.82; Minimum Quantity: 1; Tolerance: ±10%; Datasheets: http://search.murata.co.jp/Ceramy/image/img/A01X/G101/ENG/GRT32EC81A476KE13-01.pdf; Image: //media.digikey.com/Renders/Murata%20Renders/GRT%20Series%201210(3225%20Metric).jpg; Digi-Key Part Number: 490-12492-1-ND; Quantity Available: 776; @ qty: 0; Packaging: Cut Tape (CT); Series: GRT; Part Status: Active; Value: 47µF; Voltage: 10V; Temperature Coefficient: X6S; Operating Temperature: -55°C ~ 105°C; Features: -; Ratings: AEC-Q200; Applications: Automotive; Failure Rate: Surface Mount, MLCC; Mounting Type: 1210 (3225 Metric); Package / Case: 0.126" L x 0.098" W (3.20mm x 2.50mm); Size / Dimension: -; Height - Seated (Max): 0.106" (2.70mm); Thickness (Max): -; Lead Spacing: -
footprint SMD-1210C
pins: 1, 2

## GRT32EC81A476ME13L
designator C?, comment 47µF
CAP CER 47UF 10V X6S 1210; Part Number: GRT32EC81A476ME13L; Manufacturer: Murata Electronics North America; Factory Stock: 0; Unit Price (USD): 1.82; Minimum Quantity: 1; Tolerance: ±20%; Datasheets: http://search.murata.co.jp/Ceramy/image/img/A01X/G101/ENG/GRT32EC81A476ME13-01.pdf; Image: //media.digikey.com/Renders/Murata%20Renders/GRT%20Series%201210(3225%20Metric).jpg; Digi-Key Part Number: 490-12493-1-ND; Quantity Available: 710; @ qty: 0; Packaging: Cut Tape (CT); Series: GRT; Part Status: Active; Value: 47µF; Voltage: 10V; Temperature Coefficient: X6S; Operating Temperature: -55°C ~ 105°C; Features: -; Ratings: AEC-Q200; Applications: Automotive; Failure Rate: Surface Mount, MLCC; Mounting Type: 1210 (3225 Metric); Package / Case: 0.126" L x 0.098" W (3.20mm x 2.50mm); Size / Dimension: -; Height - Seated (Max): 0.106" (2.70mm); Thickness (Max): -; Lead Spacing: -
footprint SMD-1210C
pins: 1, 2

## GRT32EC81C476KE13L
designator C?, comment 47µF
CAP CER 47UF 16V X6S 1210; Part Number: GRT32EC81C476KE13L; Manufacturer: Murata Electronics North America; Factory Stock: 0; Unit Price (USD): 0.88; Minimum Quantity: 1; Tolerance: ±10%; Datasheets: http://search.murata.co.jp/Ceramy/image/img/A01X/G101/ENG/GRT32EC81C476KE13-01.pdf; Image: //media.digikey.com/Renders/Murata%20Renders/GRT%20Series%201210(3225%20Metric).jpg; Digi-Key Part Number: 490-12494-1-ND; Quantity Available: 5205; @ qty: 0; Packaging: Cut Tape (CT); Series: GRT; Part Status: Active; Value: 47µF; Voltage: 16V; Temperature Coefficient: X6S; Operating Temperature: -55°C ~ 105°C; Features: Derating Recommended; Ratings: AEC-Q200; Applications: Automotive; Failure Rate: Surface Mount, MLCC; Mounting Type: 1210 (3225 Metric); Package / Case: 0.126" L x 0.098" W (3.20mm x 2.50mm); Size / Dimension: -; Height - Seated (Max): 0.106" (2.70mm); Thickness (Max): -; Lead Spacing: -
footprint SMD-1210C
pins: 1, 2

## GRT32EC81C476ME13L
designator C?, comment 47µF
CAP CER 47UF 16V X6S 1210; Part Number: GRT32EC81C476ME13L; Manufacturer: Murata Electronics North America; Factory Stock: 0; Unit Price (USD): 0.83; Minimum Quantity: 1; Tolerance: ±20%; Datasheets: http://search.murata.co.jp/Ceramy/image/img/A01X/G101/ENG/GRT32EC81C476ME13-01.pdf; Image: //media.digikey.com/Renders/Murata%20Renders/GRT%20Series%201210(3225%20Metric).jpg; Digi-Key Part Number: 490-12495-1-ND; Quantity Available: 5235; @ qty: 0; Packaging: Cut Tape (CT); Series: GRT; Part Status: Active; Value: 47µF; Voltage: 16V; Temperature Coefficient: X6S; Operating Temperature: -55°C ~ 105°C; Features: Derating Recommended; Ratings: AEC-Q200; Applications: Automotive; Failure Rate: Surface Mount, MLCC; Mounting Type: 1210 (3225 Metric); Package / Case: 0.126" L x 0.098" W (3.20mm x 2.50mm); Size / Dimension: -; Height - Seated (Max): 0.106" (2.70mm); Thickness (Max): -; Lead Spacing: -
footprint SMD-1210C
pins: 1, 2

## GRT32EC81H475KE01L
designator C?, comment 4.7µF
CAP CER 4.7UF 50V X6S 1210; Part Number: GRT32EC81H475KE01L; Manufacturer: Murata Electronics North America; Factory Stock: 0; Unit Price (USD): 1.25; Minimum Quantity: 1; Tolerance: ±10%; Datasheets: http://search.murata.co.jp/Ceramy/image/img/A01X/G101/ENG/GRT32EC81H475KE01-01.pdf; Image: //media.digikey.com/Renders/Murata%20Renders/GRT%20Series%201210(3225%20Metric).jpg; Digi-Key Part Number: 490-12496-1-ND; Quantity Available: 1000; @ qty: 0; Packaging: Cut Tape (CT); Series: GRT; Part Status: Active; Value: 4.7µF; Voltage: 50V; Temperature Coefficient: X6S; Operating Temperature: -55°C ~ 105°C; Features: -; Ratings: AEC-Q200; Applications: Automotive; Failure Rate: Surface Mount, MLCC; Mounting Type: 1210 (3225 Metric); Package / Case: 0.126" L x 0.098" W (3.20mm x 2.50mm); Size / Dimension: -; Height - Seated (Max): 0.106" (2.70mm); Thickness (Max): -; Lead Spacing: -
footprint SMD-1210C
pins: 1, 2

## GRT32EC81H475ME01L
designator C?, comment 4.7µF
CAP CER 4.7UF 50V X6S 1210; Part Number: GRT32EC81H475ME01L; Manufacturer: Murata Electronics North America; Factory Stock: 0; Unit Price (USD): 1.25; Minimum Quantity: 1; Tolerance: ±20%; Datasheets: http://search.murata.co.jp/Ceramy/image/img/A01X/G101/ENG/GRT32EC81H475ME01-01.pdf; Image: //media.digikey.com/Renders/Murata%20Renders/GRT%20Series%201210(3225%20Metric).jpg; Digi-Key Part Number: 490-12497-1-ND; Quantity Available: 1000; @ qty: 0; Packaging: Cut Tape (CT); Series: GRT; Part Status: Active; Value: 4.7µF; Voltage: 50V; Temperature Coefficient: X6S; Operating Temperature: -55°C ~ 105°C; Features: -; Ratings: AEC-Q200; Applications: Automotive; Failure Rate: Surface Mount, MLCC; Mounting Type: 1210 (3225 Metric); Package / Case: 0.126" L x 0.098" W (3.20mm x 2.50mm); Size / Dimension: -; Height - Seated (Max): 0.106" (2.70mm); Thickness (Max): -; Lead Spacing: -
footprint SMD-1210C
pins: 1, 2

## GRT32ER60J226KE01L
designator C?, comment 22µF
CAP CER 22UF 6.3V X5R 1210; Part Number: GRT32ER60J226KE01L; Manufacturer: Murata Electronics North America; Factory Stock: 0; Unit Price (USD): 0.95; Minimum Quantity: 1; Tolerance: ±10%; Datasheets: http://search.murata.co.jp/Ceramy/image/img/A01X/G101/ENG/GRT32ER60J226KE01-01.pdf; Image: //media.digikey.com/Renders/Murata%20Renders/GRT%20Series%201210(3225%20Metric).jpg; Digi-Key Part Number: 490-12499-1-ND; Quantity Available: 1000; @ qty: 0; Packaging: Cut Tape (CT); Series: GRT; Part Status: Active; Value: 22µF; Voltage: 6.3V; Temperature Coefficient: X5R; Operating Temperature: -55°C ~ 85°C; Features: -; Ratings: AEC-Q200; Applications: Automotive; Failure Rate: Surface Mount, MLCC; Mounting Type: 1210 (3225 Metric); Package / Case: 0.126" L x 0.098" W (3.20mm x 2.50mm); Size / Dimension: -; Height - Seated (Max): 0.106" (2.70mm); Thickness (Max): -; Lead Spacing: -
footprint SMD-1210C
pins: 1, 2

## GRT32ER60J226ME01L
designator C?, comment 22µF
CAP CER 22UF 6.3V X5R 1210; Part Number: GRT32ER60J226ME01L; Manufacturer: Murata Electronics North America; Factory Stock: 0; Unit Price (USD): 0.95; Minimum Quantity: 1; Tolerance: ±20%; Datasheets: http://search.murata.co.jp/Ceramy/image/img/A01X/G101/ENG/GRT32ER60J226ME01-01.pdf; Image: //media.digikey.com/Renders/Murata%20Renders/GRT%20Series%201210(3225%20Metric).jpg; Digi-Key Part Number: 490-12500-1-ND; Quantity Available: 1000; @ qty: 0; Packaging: Cut Tape (CT); Series: GRT; Part Status: Active; Value: 22µF; Voltage: 6.3V; Temperature Coefficient: X5R; Operating Temperature: -55°C ~ 85°C; Features: -; Ratings: AEC-Q200; Applications: Automotive; Failure Rate: Surface Mount, MLCC; Mounting Type: 1210 (3225 Metric); Package / Case: 0.126" L x 0.098" W (3.20mm x 2.50mm); Size / Dimension: -; Height - Seated (Max): 0.106" (2.70mm); Thickness (Max): -; Lead Spacing: -
footprint SMD-1210C
pins: 1, 2

## GRT32ER61A226KE01L
designator C?, comment 22µF
CAP CER 22UF 10V X5R 1210; Part Number: GRT32ER61A226KE01L; Manufacturer: Murata Electronics North America; Factory Stock: 0; Unit Price (USD): 2.03; Minimum Quantity: 1; Tolerance: ±10%; Datasheets: http://search.murata.co.jp/Ceramy/image/img/A01X/G101/ENG/GRT32ER61A226KE01-01.pdf; Image: //media.digikey.com/Renders/Murata%20Renders/GRT%20Series%201210(3225%20Metric).jpg; Digi-Key Part Number: 490-12501-1-ND; Quantity Available: 1000; @ qty: 0; Packaging: Cut Tape (CT); Series: GRT; Part Status: Active; Value: 22µF; Voltage: 10V; Temperature Coefficient: X5R; Operating Temperature: -55°C ~ 85°C; Features: -; Ratings: AEC-Q200; Applications: Automotive; Failure Rate: Surface Mount, MLCC; Mounting Type: 1210 (3225 Metric); Package / Case: 0.126" L x 0.098" W (3.20mm x 2.50mm); Size / Dimension: -; Height - Seated (Max): 0.106" (2.70mm); Thickness (Max): -; Lead Spacing: -
footprint SMD-1210C
pins: 1, 2

## GRT32ER61A226ME01L
designator C?, comment 22µF
CAP CER 22UF 10V X5R 1210; Part Number: GRT32ER61A226ME01L; Manufacturer: Murata Electronics North America; Factory Stock: 0; Unit Price (USD): 0.97; Minimum Quantity: 1; Tolerance: ±20%; Datasheets: http://search.murata.co.jp/Ceramy/image/img/A01X/G101/ENG/GRT32ER61A226ME01-01.pdf; Image: //media.digikey.com/Renders/Murata%20Renders/GRT%20Series%201210(3225%20Metric).jpg; Digi-Key Part Number: 490-12502-1-ND; Quantity Available: 1000; @ qty: 0; Packaging: Cut Tape (CT); Series: GRT; Part Status: Active; Value: 22µF; Voltage: 10V; Temperature Coefficient: X5R; Operating Temperature: -55°C ~ 85°C; Features: -; Ratings: AEC-Q200; Applications: Automotive; Failure Rate: Surface Mount, MLCC; Mounting Type: 1210 (3225 Metric); Package / Case: 0.126" L x 0.098" W (3.20mm x 2.50mm); Size / Dimension: -; Height - Seated (Max): 0.106" (2.70mm); Thickness (Max): -; Lead Spacing: -
footprint SMD-1210C
pins: 1, 2

## GRT32ER61C226KE13L
designator C?, comment 22µF
CAP CER 22UF 16V X5R 1210; Part Number: GRT32ER61C226KE13L; Manufacturer: Murata Electronics North America; Factory Stock: 0; Unit Price (USD): 2.03; Minimum Quantity: 1; Tolerance: ±10%; Datasheets: http://search.murata.co.jp/Ceramy/image/img/A01X/G101/ENG/GRT32ER61C226KE13-01.pdf; Image: //media.digikey.com/Renders/Murata%20Renders/GRT%20Series%201210(3225%20Metric).jpg; Digi-Key Part Number: 490-12503-1-ND; Quantity Available: 1000; @ qty: 0; Packaging: Cut Tape (CT); Series: GRT; Part Status: Active; Value: 22µF; Voltage: 16V; Temperature Coefficient: X5R; Operating Temperature: -55°C ~ 85°C; Features: -; Ratings: AEC-Q200; Applications: Automotive; Failure Rate: Surface Mount, MLCC; Mounting Type: 1210 (3225 Metric); Package / Case: 0.126" L x 0.098" W (3.20mm x 2.50mm); Size / Dimension: -; Height - Seated (Max): 0.106" (2.70mm); Thickness (Max): -; Lead Spacing: -
footprint SMD-1210C
pins: 1, 2

## GRT32ER61C226ME13L
designator C?, comment 22µF
CAP CER 22UF 16V X5R 1210; Part Number: GRT32ER61C226ME13L; Manufacturer: Murata Electronics North America; Factory Stock: 0; Unit Price (USD): 2.03; Minimum Quantity: 1; Tolerance: ±20%; Datasheets: http://search.murata.co.jp/Ceramy/image/img/A01X/G101/ENG/GRT32ER61C226ME13-01.pdf; Image: //media.digikey.com/Renders/Murata%20Renders/GRT%20Series%201210(3225%20Metric).jpg; Digi-Key Part Number: 490-12504-1-ND; Quantity Available: 950; @ qty: 0; Packaging: Cut Tape (CT); Series: GRT; Part Status: Active; Value: 22µF; Voltage: 16V; Temperature Coefficient: X5R; Operating Temperature: -55°C ~ 85°C; Features: -; Ratings: AEC-Q200; Applications: Automotive; Failure Rate: Surface Mount, MLCC; Mounting Type: 1210 (3225 Metric); Package / Case: 0.126" L x 0.098" W (3.20mm x 2.50mm); Size / Dimension: -; Height - Seated (Max): 0.106" (2.70mm); Thickness (Max): -; Lead Spacing: -
footprint SMD-1210C
pins: 1, 2

## GRT32ER61E226KE13L
designator C?, comment 22µF
CAP CER 22UF 25V X5R 1210; Part Number: GRT32ER61E226KE13L; Manufacturer: Murata Electronics North America; Factory Stock: 0; Unit Price (USD): 2.18; Minimum Quantity: 1; Tolerance: ±10%; Datasheets: http://search.murata.co.jp/Ceramy/image/img/A01X/G101/ENG/GRT32ER61E226KE13-01.pdf; Image: //media.digikey.com/Renders/Murata%20Renders/GRT%20Series%201210(3225%20Metric).jpg; Digi-Key Part Number: 490-12505-1-ND; Quantity Available: 660; @ qty: 0; Packaging: Cut Tape (CT); Series: GRT; Part Status: Active; Value: 22µF; Voltage: 25V; Temperature Coefficient: X5R; Operating Temperature: -55°C ~ 85°C; Features: -; Ratings: AEC-Q200; Applications: Automotive; Failure Rate: Surface Mount, MLCC; Mounting Type: 1210 (3225 Metric); Package / Case: 0.126" L x 0.098" W (3.20mm x 2.50mm); Size / Dimension: -; Height - Seated (Max): 0.106" (2.70mm); Thickness (Max): -; Lead Spacing: -
footprint SMD-1210C
pins: 1, 2

## GRT32ER61E226ME13L
designator C?, comment 22µF
CAP CER 22UF 25V X5R 1210; Part Number: GRT32ER61E226ME13L; Manufacturer: Murata Electronics North America; Factory Stock: 0; Unit Price (USD): 2.18; Minimum Quantity: 1; Tolerance: ±20%; Datasheets: http://search.murata.co.jp/Ceramy/image/img/A01X/G101/ENG/GRT32ER61E226ME13-01.pdf; Image: //media.digikey.com/Renders/Murata%20Renders/GRT%20Series%201210(3225%20Metric).jpg; Digi-Key Part Number: 490-12506-1-ND; Quantity Available: 485; @ qty: 0; Packaging: Cut Tape (CT); Series: GRT; Part Status: Active; Value: 22µF; Voltage: 25V; Temperature Coefficient: X5R; Operating Temperature: -55°C ~ 85°C; Features: -; Ratings: AEC-Q200; Applications: Automotive; Failure Rate: Surface Mount, MLCC; Mounting Type: 1210 (3225 Metric); Package / Case: 0.126" L x 0.098" W (3.20mm x 2.50mm); Size / Dimension: -; Height - Seated (Max): 0.106" (2.70mm); Thickness (Max): -; Lead Spacing: -
footprint SMD-1210C
pins: 1, 2

## GRT32ER61H475KE01L
designator C?, comment 4.7µF
CAP CER 4.7UF 50V X5R 1210; Part Number: GRT32ER61H475KE01L; Manufacturer: Murata Electronics North America; Factory Stock: 0; Unit Price (USD): 1.25; Minimum Quantity: 1; Tolerance: ±10%; Datasheets: http://search.murata.co.jp/Ceramy/image/img/A01X/G101/ENG/GRT32ER61H475KE01-01.pdf; Image: //media.digikey.com/Renders/Murata%20Renders/GRT%20Series%201210(3225%20Metric).jpg; Digi-Key Part Number: 490-12507-1-ND; Quantity Available: 930; @ qty: 0; Packaging: Cut Tape (CT); Series: GRT; Part Status: Active; Value: 4.7µF; Voltage: 50V; Temperature Coefficient: X5R; Operating Temperature: -55°C ~ 85°C; Features: -; Ratings: AEC-Q200; Applications: Automotive; Failure Rate: Surface Mount, MLCC; Mounting Type: 1210 (3225 Metric); Package / Case: 0.126" L x 0.098" W (3.20mm x 2.50mm); Size / Dimension: -; Height - Seated (Max): 0.106" (2.70mm); Thickness (Max): -; Lead Spacing: -
footprint SMD-1210C
pins: 1, 2

## GRT32ER61H475ME01L
designator C?, comment 4.7µF
CAP CER 4.7UF 50V X5R 1210; Part Number: GRT32ER61H475ME01L; Manufacturer: Murata Electronics North America; Factory Stock: 0; Unit Price (USD): 1.25; Minimum Quantity: 1; Tolerance: ±20%; Datasheets: http://search.murata.co.jp/Ceramy/image/img/A01X/G101/ENG/GRT32ER61H475ME01-01.pdf; Image: //media.digikey.com/Renders/Murata%20Renders/GRT%20Series%201210(3225%20Metric).jpg; Digi-Key Part Number: 490-12508-1-ND; Quantity Available: 1000; @ qty: 0; Packaging: Cut Tape (CT); Series: GRT; Part Status: Active; Value: 4.7µF; Voltage: 50V; Temperature Coefficient: X5R; Operating Temperature: -55°C ~ 85°C; Features: -; Ratings: AEC-Q200; Applications: Automotive; Failure Rate: Surface Mount, MLCC; Mounting Type: 1210 (3225 Metric); Package / Case: 0.126" L x 0.098" W (3.20mm x 2.50mm); Size / Dimension: -; Height - Seated (Max): 0.106" (2.70mm); Thickness (Max): -; Lead Spacing: -
footprint SMD-1210C
pins: 1, 2